# Altium schematic symbol library test.SchLib: 1 symbol
Pins are listed as number, name and electrical type; pins without a type are passive.

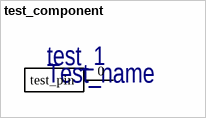
[diagram p0: symbol test_component]

## test_component
designator test_1, comment Test_name
name: Test_name
pins: 0 test_pin